# EAGLE library part PAM8301 (library gee_s)
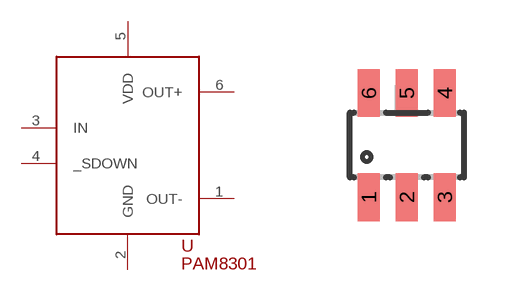
[diagram p38: symbol with the pads of SOT23-6; footprint SOT23-6]

Designator prefix -

## PAM8301  [SOT23-6]
1  OUT-
2  GND
3  IN
4  _SDOWN
5  VDD
6  OUT+

## Footprint SOT23-6 (pad centres in mm)
smd 0.55 x 1.2: 1 -0.95,-1.3; 2 0,-1.3; 3 0.95,-1.3; 4 0.95,1.3; 5 0,1.3; 6 -0.95,1.3